# Altium footprint library EPC_2023_Q1a.PcbLib: 40 footprints (part 1 of 3)
Each footprint in its own frame and in the unit in brackets; x right, y up, seen from the top. Pads: shape width x height; smd on the part's side, far side on the other; paste and mask are expansions set on the pad; w line width, h text height; cw(c..) or ccw(c..) is an arc to the next point about the centre after c.
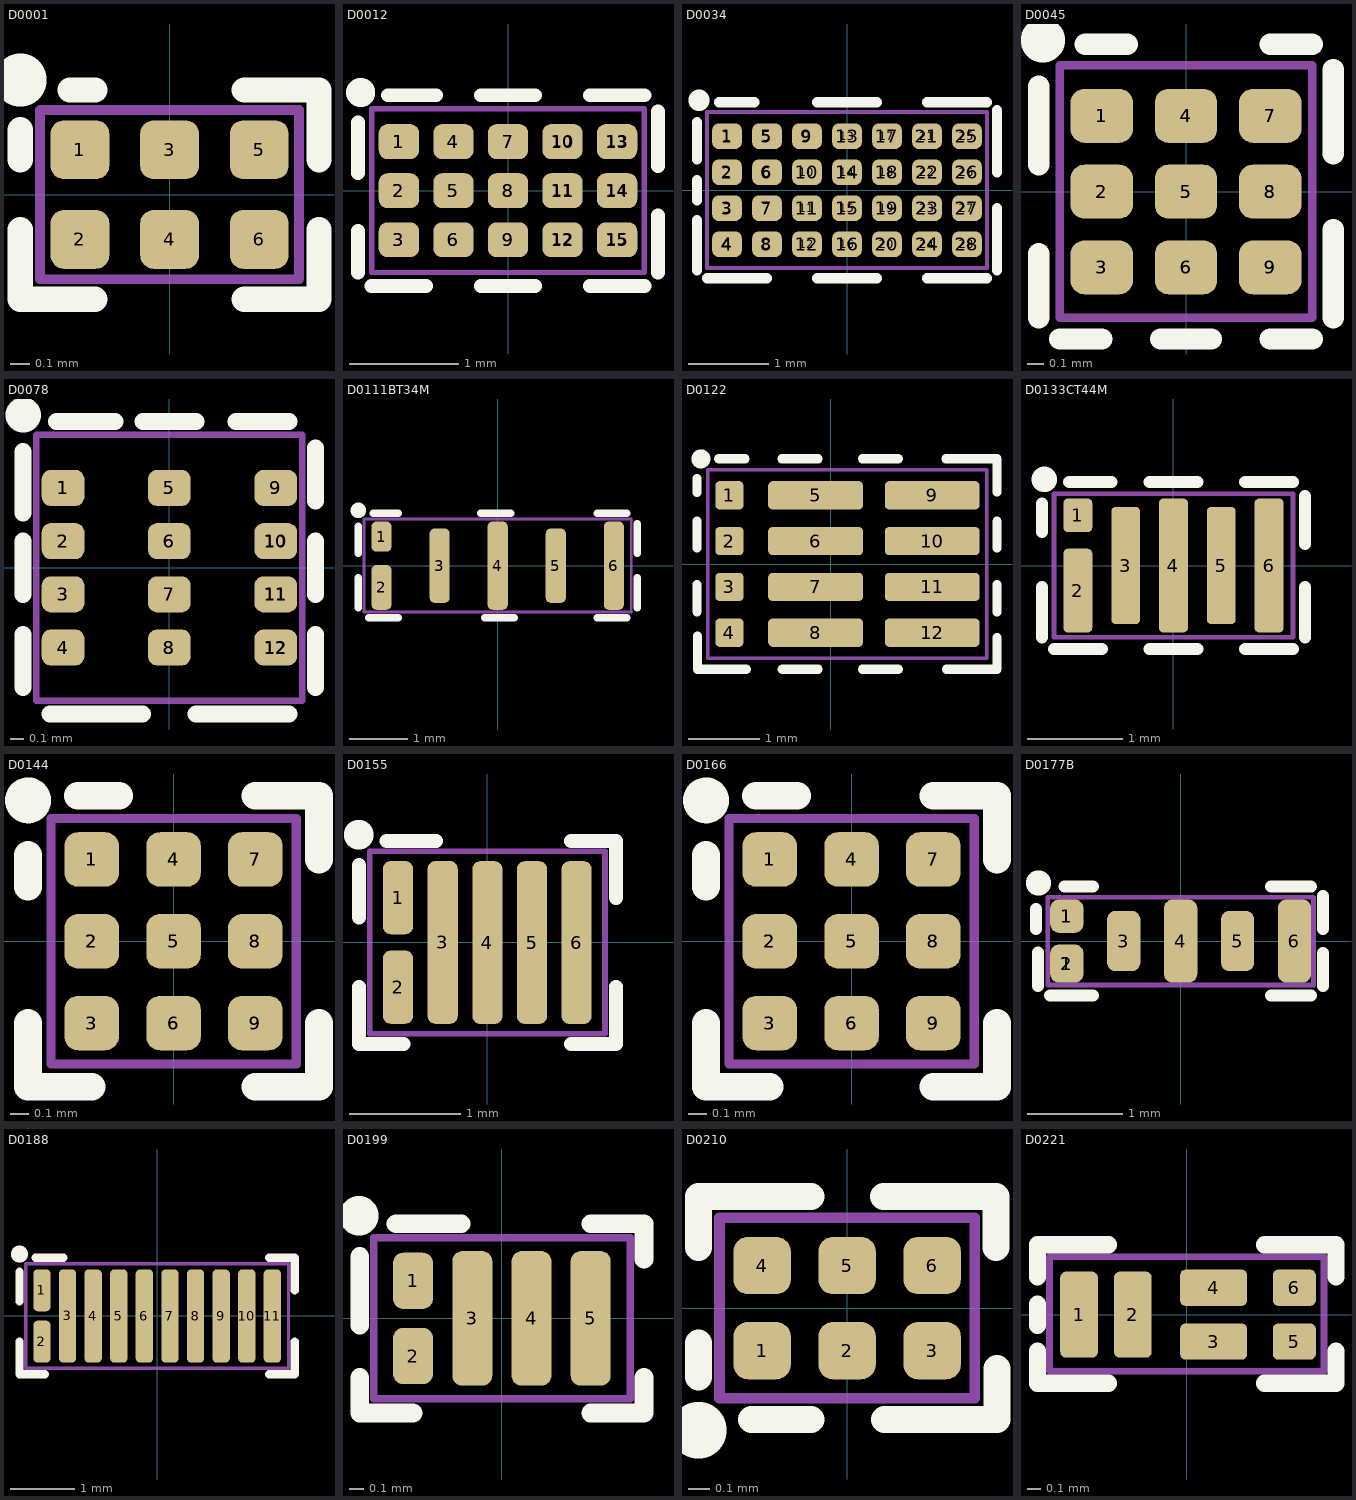
[diagram p0: the footprints below, top view; thin cyan lines are the x and y axes]

## D0001 [mm] "BGA 6 pin, 1.3mm by 0.85mm"
height 0.8
pads (12):
  rrect45% 0.295x0.295 smd paste-0.035 mask-0.135: 1(-0.45,0.225) 2(-0.45,-0.225) 3(0,0.225) 4(0,-0.225) 5(0.45,0.225) 6(0.45,-0.225)
  round 0.225 on Top Solder paste+0 mask+0: ""(-0.45,-0.225) ""(-0.45,0.225) ""(0,-0.225) ""(0,0.225) ""(0.45,-0.225) ""(0.45,0.225)
Top Overlay:
  circle w0.254: c-0.75,0.575 r0.006
  lines w0.127: -0.75,-0.175 -0.75,-0.525 -0.375,-0.525 ; -0.75,0.175 -0.75,0.325 ; -0.5,0.525 -0.375,0.525 ; 0.375,-0.525 0.75,-0.525 0.75,-0.175 ; 0.375,0.525 0.75,0.525 0.75,0.175
Mechanical 13:
  lines w0.05: -0.65,-0.425 0.65,-0.425 0.65,0.425 -0.65,0.425 -0.65,-0.425
3D body: height 0.78, standoff 0.1, extent -0.65,-0.425 0.65,0.425
3D body: height 0.8, standoff 0.15, extent -0.599,0.075 -0.3,0.375
3D body: height 0.15, standoff -0.05, extent -0.547,0.127 -0.353,0.323
3D body: height 0.1, standoff 0.04, extent -0.55,0.125 -0.351,0.325
3D body: height 0.1, standoff 0.04, extent -0.1,0.125 0.099,0.325
3D body: height 0.1, standoff 0.04, extent 0.35,0.125 0.549,0.325
3D body: height 0.1, standoff 0.04, extent -0.55,-0.325 -0.351,-0.125
3D body: height 0.1, standoff 0.04, extent -0.1,-0.325 0.099,-0.125
3D body: height 0.1, standoff 0.04, extent 0.35,-0.325 0.549,-0.125
3D body: height 0.15, standoff -0.05, extent -0.097,0.127 0.097,0.323
3D body: height 0.15, standoff -0.05, extent -0.547,-0.323 -0.353,-0.127
3D body: height 0.15, standoff -0.05, extent -0.097,-0.323 0.097,-0.127
3D body: height 0.15, standoff -0.05, extent 0.353,-0.323 0.547,-0.127
3D body: height 0.15, standoff -0.05, extent 0.353,0.127 0.547,0.323

## D0012 [mm] "Gen 5 100 V"
height 0.8
pads (30):
  rrect50% 0.37x0.32 smd paste-0.035 mask-0.2: 1(-1,0.45) 2(-1,0) 3(-1,-0.45) 4(-0.5,0.45) 5(-0.5,0) 6(-0.5,-0.45) 7(0,0.45) 8(0,0) 9(0,-0.45) 10(0.5,0.45) 11(0.5,0) 12(0.5,-0.45) 13(1,0.45) 14(1,0) 15(1,-0.45)
  round 0.23 on Top Solder paste+0 mask+0: 1(-1,0.45) 2(-1,0) 3(-1,-0.45) 4(-0.5,0.45) 5(-0.5,0) 6(-0.5,-0.45) 7(0,0.45) 8(0,0) 9(0,-0.45) 10(0.5,0.45) 11(0.5,0) 12(0.5,-0.45) 13(1,0.45) 14(1,0) 15(1,-0.45)
Top Overlay:
  circle w0.254: c-1.35,0.9 r0.006
  lines w0.127: -1.375,-0.75 -1.375,-0.37 ; -1.375,0.16 -1.375,0.625 ; -1.25,-0.875 -0.75,-0.875 ; -1.099,0.875 -0.658,0.875 ; -0.25,-0.875 0.25,-0.875 ; -0.25,0.875 0.25,0.875 ; 0.75,-0.875 1.25,-0.875 ; 0.75,0.875 1.25,0.875 ; 1.375,-0.75 1.375,-0.225 ; 1.375,0.225 1.375,0.725
Mechanical 13:
  lines w0.05: -1.25,-0.75 -1.25,0.75 1.25,0.75 1.25,-0.75 -1.25,-0.75
3D body: height 0.26, standoff -0.01, extent -1.129,-0.135 -0.862,0.136
3D body: height 0.2, standoff 0.13, extent -1.137,-0.137 -0.862,0.138
3D body: height 0.89, standoff 0.88, extent -1.151,0.301 -0.852,0.601
3D body: height 0.88, standoff 0.15, extent -1.25,-0.75 1.25,0.75
3D body: height 0.2, standoff 0.13, extent -1.137,0.313 -0.862,0.588
3D body: height 0.26, standoff -0.01, extent -1.129,0.315 -0.862,0.586
3D body: height 0.2, standoff 0.13, extent -1.137,-0.587 -0.862,-0.312
3D body: height 0.26, standoff -0.01, extent -1.129,-0.585 -0.862,-0.314
3D body: height 0.2, standoff 0.13, extent -0.637,0.313 -0.362,0.588
3D body: height 0.26, standoff -0.01, extent -0.629,0.315 -0.362,0.586
3D body: height 0.2, standoff 0.13, extent -0.637,-0.137 -0.362,0.138
3D body: height 0.26, standoff -0.01, extent -0.629,-0.135 -0.362,0.136
3D body: height 0.2, standoff 0.13, extent -0.637,-0.587 -0.362,-0.312
3D body: height 0.26, standoff -0.01, extent -0.629,-0.585 -0.362,-0.314
3D body: height 0.2, standoff 0.13, extent -0.137,0.313 0.138,0.588
3D body: height 0.26, standoff -0.01, extent -0.129,0.315 0.138,0.586
3D body: height 0.2, standoff 0.13, extent -0.137,-0.137 0.138,0.138
3D body: height 0.26, standoff -0.01, extent -0.129,-0.135 0.138,0.136
3D body: height 0.2, standoff 0.13, extent -0.137,-0.587 0.138,-0.312
3D body: height 0.26, standoff -0.01, extent -0.129,-0.585 0.138,-0.314
3D body: height 0.2, standoff 0.13, extent 0.363,-0.587 0.638,-0.312
3D body: height 0.26, standoff -0.01, extent 0.371,-0.585 0.638,-0.314
3D body: height 0.2, standoff 0.13, extent 0.363,-0.137 0.638,0.138
3D body: height 0.26, standoff -0.01, extent 0.371,-0.135 0.638,0.136
3D body: height 0.2, standoff 0.13, extent 0.363,0.313 0.638,0.588
3D body: height 0.26, standoff -0.01, extent 0.371,0.315 0.638,0.586
3D body: height 0.2, standoff 0.13, extent 0.863,0.313 1.138,0.588
3D body: height 0.26, standoff -0.01, extent 0.871,0.315 1.138,0.586
3D body: height 0.2, standoff 0.13, extent 0.863,-0.137 1.138,0.138
3D body: height 0.26, standoff -0.01, extent 0.871,-0.135 1.138,0.136
3D body: height 0.2, standoff 0.13, extent 0.863,-0.587 1.138,-0.312
3D body: height 0.26, standoff -0.01, extent 0.871,-0.585 1.138,-0.314

## D0034 [mm] "Gen 5 100 V"
height 0.8
pads (56):
  rrect50% 0.37x0.32 smd paste-0.035 mask-0.2: 1(-1.5,0.675) 2(-1.5,0.225) 3(-1.5,-0.225) 4(-1.5,-0.675) 5(-1,0.675) 6(-1,0.225) 7(-1,-0.225) 8(-1,-0.675) 9(-0.5,0.675) 10(-0.5,0.225) 11(-0.5,-0.225) 12(-0.5,-0.675) 13(0,0.675) 14(0,0.225) 15(0,-0.225) 16(0,-0.675) 17(0.5,0.675) 18(0.5,0.225) 19(0.5,-0.225) 20(0.5,-0.675) 21(1,0.675) 22(1,0.225) 23(1,-0.225) 24(1,-0.675) 25(1.5,0.675) 26(1.5,0.225) 27(1.5,-0.225) 28(1.5,-0.675)
  round 0.23 on Top Solder paste+0 mask+0: 1(-1.5,0.675) 2(-1.5,0.225) 3(-1.5,-0.225) 4(-1.5,-0.675) 5(-1,0.675) 6(-1,0.225) 7(-1,-0.225) 8(-1,-0.675) 9(-0.5,0.675) 10(-0.5,0.225) 11(-0.5,-0.225) 12(-0.5,-0.675) 13(0,0.675) 14(0,0.225) 15(0,-0.225) 16(0,-0.675) 17(0.5,0.675) 18(0.5,0.225) 19(0.5,-0.225) 20(0.5,-0.675) 21(1,0.675) 22(1,0.225) 23(1,-0.225) 24(1,-0.675) 25(1.5,0.675) 26(1.5,0.225) 27(1.5,-0.225) 28(1.5,-0.675)
Top Overlay:
  circle w0.254: c-1.85,1.125 r0.006
  lines w0.127: -1.875,-1 -1.875,-0.37 ; -1.875,-0.125 -1.875,0.125 ; -1.875,0.385 -1.875,0.85 ; -1.75,-1.1 -1,-1.1 ; -1.599,1.1 -1.158,1.1 ; -0.375,-1.1 0.375,-1.1 ; -0.375,1.1 0.375,1.1 ; 1,-1.1 1.75,-1.1 ; 1,1.1 1.75,1.1 ; 1.875,-1 1.875,-0.225 ; 1.875,0.225 1.875,1
Mechanical 13:
  lines w0.05: -1.75,-0.975 -1.75,0.975 1.75,0.975 1.75,-0.975 -1.75,-0.975
3D body: height 0.88, standoff 0.15, extent -1.753,-0.974 1.751,0.975
3D body: height 0.89, standoff 0.88, extent -1.655,0.53 -1.357,0.829
3D body: height 0.2, standoff 0.13, extent -1.637,0.088 -1.362,0.363
3D body: height 0.26, standoff -0.01, extent -1.629,0.09 -1.362,0.361
3D body: height 0.26, standoff -0.01, extent -1.629,0.54 -1.362,0.811
3D body: height 0.2, standoff 0.13, extent -1.637,0.538 -1.362,0.813
3D body: height 0.26, standoff -0.01, extent -1.629,-0.36 -1.362,-0.089
3D body: height 0.2, standoff 0.13, extent -1.637,-0.362 -1.362,-0.087
3D body: height 0.26, standoff -0.01, extent -1.629,-0.81 -1.362,-0.539
3D body: height 0.2, standoff 0.13, extent -1.637,-0.812 -1.362,-0.537
3D body: height 0.26, standoff -0.01, extent -1.129,0.54 -0.862,0.811
3D body: height 0.2, standoff 0.13, extent -1.137,0.538 -0.862,0.813
3D body: height 0.26, standoff -0.01, extent -1.129,0.09 -0.862,0.361
3D body: height 0.2, standoff 0.13, extent -1.137,0.088 -0.862,0.363
3D body: height 0.26, standoff -0.01, extent -1.129,-0.36 -0.862,-0.089
3D body: height 0.2, standoff 0.13, extent -1.137,-0.362 -0.862,-0.087
3D body: height 0.26, standoff -0.01, extent -1.129,-0.81 -0.862,-0.539
3D body: height 0.2, standoff 0.13, extent -1.137,-0.812 -0.862,-0.537
3D body: height 0.2, standoff 0.13, extent -0.637,-0.812 -0.362,-0.537
3D body: height 0.26, standoff -0.01, extent -0.629,-0.81 -0.362,-0.539
3D body: height 0.2, standoff 0.13, extent -0.637,-0.362 -0.362,-0.087
3D body: height 0.26, standoff -0.01, extent -0.629,-0.36 -0.362,-0.089
3D body: height 0.2, standoff 0.13, extent -0.637,0.088 -0.362,0.363
3D body: height 0.26, standoff -0.01, extent -0.629,0.09 -0.362,0.361
3D body: height 0.2, standoff 0.13, extent -0.637,0.538 -0.362,0.813
3D body: height 0.26, standoff -0.01, extent -0.629,0.54 -0.362,0.811
3D body: height 0.2, standoff 0.13, extent -0.137,-0.812 0.138,-0.537
3D body: height 0.26, standoff -0.01, extent -0.129,-0.81 0.138,-0.539
3D body: height 0.2, standoff 0.13, extent -0.137,-0.362 0.138,-0.087
3D body: height 0.26, standoff -0.01, extent -0.129,-0.36 0.138,-0.089
3D body: height 0.2, standoff 0.13, extent -0.137,0.088 0.138,0.363
3D body: height 0.26, standoff -0.01, extent -0.129,0.09 0.138,0.361
3D body: height 0.2, standoff 0.13, extent -0.137,0.538 0.138,0.813
3D body: height 0.26, standoff -0.01, extent -0.129,0.54 0.138,0.811
3D body: height 0.2, standoff 0.13, extent 0.363,-0.812 0.638,-0.537
3D body: height 0.26, standoff -0.01, extent 0.371,-0.81 0.638,-0.539
3D body: height 0.2, standoff 0.13, extent 0.363,-0.362 0.638,-0.087
3D body: height 0.26, standoff -0.01, extent 0.371,-0.36 0.638,-0.089
3D body: height 0.2, standoff 0.13, extent 0.363,0.088 0.638,0.363
3D body: height 0.26, standoff -0.01, extent 0.371,0.09 0.638,0.361
3D body: height 0.2, standoff 0.13, extent 0.363,0.538 0.638,0.813
3D body: height 0.26, standoff -0.01, extent 0.371,0.54 0.638,0.811
3D body: height 0.2, standoff 0.13, extent 0.863,-0.812 1.138,-0.537
3D body: height 0.26, standoff -0.01, extent 0.871,-0.81 1.138,-0.539
3D body: height 0.2, standoff 0.13, extent 0.863,-0.362 1.138,-0.087
3D body: height 0.26, standoff -0.01, extent 0.871,-0.36 1.138,-0.089
3D body: height 0.2, standoff 0.13, extent 0.863,0.088 1.138,0.363
3D body: height 0.26, standoff -0.01, extent 0.871,0.09 1.138,0.361
3D body: height 0.2, standoff 0.13, extent 0.863,0.538 1.138,0.813
3D body: height 0.26, standoff -0.01, extent 0.871,0.54 1.138,0.811
3D body: height 0.2, standoff 0.13, extent 1.363,-0.812 1.638,-0.537
3D body: height 0.26, standoff -0.01, extent 1.371,-0.81 1.638,-0.539
3D body: height 0.2, standoff 0.13, extent 1.363,-0.362 1.638,-0.087
3D body: height 0.26, standoff -0.01, extent 1.371,-0.36 1.638,-0.089
3D body: height 0.2, standoff 0.13, extent 1.363,0.088 1.638,0.363
3D body: height 0.26, standoff -0.01, extent 1.371,0.09 1.638,0.361
3D body: height 0.2, standoff 0.13, extent 1.363,0.538 1.638,0.813
3D body: height 0.26, standoff -0.01, extent 1.371,0.54 1.638,0.811

## D0045 [mm] "Gen 5 100 V"
height 0.8
pads (18):
  rrect50% 0.37x0.32 smd paste-0.035 mask-0.2: 1(-0.5,0.45) 2(-0.5,0) 3(-0.5,-0.45) 4(0,0.45) 5(0,0) 6(0,-0.45) 7(0.5,0.45) 8(0.5,0) 9(0.5,-0.45)
  round 0.23 on Top Solder paste+0 mask+0: 1(-0.5,0.45) 2(-0.5,0) 3(-0.5,-0.45) 4(0,0.45) 5(0,0) 6(0,-0.45) 7(0.5,0.45) 8(0.5,0) 9(0.5,-0.45)
Top Overlay:
  circle w0.254: c-0.85,0.9 r0.006
  lines w0.127: -0.875,-0.75 -0.875,-0.37 ; -0.875,0.16 -0.875,0.625 ; -0.75,-0.875 -0.5,-0.875 ; -0.599,0.875 -0.348,0.875 ; -0.15,-0.875 0.15,-0.875 ; 0.5,-0.875 0.75,-0.875 ; 0.5,0.875 0.75,0.875 ; 0.875,-0.75 0.875,-0.225 ; 0.875,0.225 0.875,0.725
Mechanical 13:
  lines w0.05: -0.75,-0.75 0.75,-0.75 0.75,0.75 -0.75,0.75 -0.75,-0.75
3D body: height 0.2, standoff 0.13, extent 0.363,0.313 0.638,0.588
3D body: height 0.26, standoff -0.01, extent 0.371,0.315 0.638,0.586
3D body: height 0.2, standoff 0.13, extent -0.137,0.313 0.138,0.588
3D body: height 0.26, standoff -0.01, extent -0.129,0.315 0.138,0.586
3D body: height 0.2, standoff 0.13, extent -0.635,0.312 -0.36,0.588
3D body: height 0.26, standoff -0.01, extent -0.627,0.314 -0.36,0.585
3D body: height 0.2, standoff 0.13, extent -0.637,-0.137 -0.362,0.138
3D body: height 0.26, standoff -0.01, extent -0.629,-0.135 -0.362,0.136
3D body: height 0.2, standoff 0.13, extent -0.136,-0.138 0.139,0.138
3D body: height 0.26, standoff -0.01, extent -0.128,-0.135 0.138,0.135
3D body: height 0.2, standoff 0.13, extent 0.363,-0.137 0.638,0.138
3D body: height 0.26, standoff -0.01, extent 0.371,-0.135 0.638,0.136
3D body: height 0.2, standoff 0.13, extent 0.363,-0.587 0.638,-0.312
3D body: height 0.26, standoff -0.01, extent 0.371,-0.585 0.638,-0.314
3D body: height 0.2, standoff 0.13, extent -0.136,-0.587 0.139,-0.312
3D body: height 0.26, standoff -0.01, extent -0.128,-0.585 0.138,-0.314
3D body: height 0.26, standoff -0.01, extent -0.629,-0.585 -0.362,-0.315
3D body: height 0.2, standoff 0.13, extent -0.637,-0.588 -0.362,-0.312
3D body: height 0.88, standoff 0.15, extent -0.748,-0.75 0.749,0.75
3D body: height 0.89, standoff 0.88, extent -0.647,0.3 -0.348,0.6

## D0078 [mm] "350V Gen5"
height 0.6
pads (24):
  rrect50% 0.321x0.271 smd paste-0.023 mask+0: 1(-0.8,0.6) 2(-0.8,0.2) 3(-0.8,-0.2) 4(-0.8,-0.6) 5(0,0.6) 6(0,0.2) 7(0,-0.2) 8(0,-0.6) 9(0.8,0.6) 10(0.8,0.2) 11(0.8,-0.2) 12(0.8,-0.6)
  round 0.2 on Top Solder paste+0 mask+0: 1(-0.8,0.6) 2(-0.8,0.2) 3(-0.8,-0.2) 4(-0.8,-0.6) 5(0,0.6) 6(0,0.2) 7(0,-0.2) 8(0,-0.6) 9(0.8,0.6) 10(0.8,0.2) 11(0.8,-0.2) 12(0.8,-0.6)
Top Overlay:
  circle w0.254: c-1.1,1.15 r0.006
  lines w0.127: -1.1,-0.9 -1.1,-0.5 ; -1.1,-0.2 -1.1,0.2 ; -1.1,0.41 -1.1,0.875 ; -0.9,-1.1 -0.2,-1.1 ; -0.849,1.1 -0.408,1.1 ; -0.2,1.1 0.2,1.1 ; 0.2,-1.1 0.9,-1.1 ; 0.5,1.1 0.9,1.1 ; 1.1,-0.9 1.1,-0.5 ; 1.1,-0.2 1.1,0.2 ; 1.1,0.5 1.1,0.9
Mechanical 13:
  lines w0.05: -1,-1 -1,1 1,1 1,-1 -1,-1
3D body: height 0.78, standoff 0.13, extent -1,-1.005 1,0.975
3D body: height 0.79, standoff 0.78, extent -0.95,0.45 -0.65,0.749
3D body: height 0.2, standoff 0.13, extent -0.937,-0.738 -0.662,-0.462
3D body: height 0.26, standoff -0.01, extent -0.929,-0.735 -0.662,-0.465
3D body: height 0.26, standoff -0.01, extent -0.129,-0.735 0.138,-0.465
3D body: height 0.2, standoff 0.13, extent -0.137,-0.738 0.138,-0.462
3D body: height 0.26, standoff -0.01, extent 0.671,-0.735 0.938,-0.465
3D body: height 0.2, standoff 0.13, extent 0.663,-0.738 0.938,-0.462
3D body: height 0.2, standoff 0.13, extent 0.663,-0.337 0.938,-0.062
3D body: height 0.26, standoff -0.01, extent 0.671,-0.335 0.938,-0.064
3D body: height 0.2, standoff 0.13, extent -0.137,-0.337 0.138,-0.062
3D body: height 0.26, standoff -0.01, extent -0.129,-0.335 0.138,-0.064
3D body: height 0.26, standoff -0.01, extent -0.929,-0.335 -0.662,-0.064
3D body: height 0.2, standoff 0.13, extent -0.937,-0.337 -0.662,-0.062
3D body: height 0.2, standoff 0.13, extent 0.663,0.063 0.938,0.338
3D body: height 0.26, standoff -0.01, extent 0.671,0.065 0.938,0.336
3D body: height 0.2, standoff 0.13, extent -0.137,0.063 0.138,0.338
3D body: height 0.26, standoff -0.01, extent -0.129,0.065 0.138,0.336
3D body: height 0.26, standoff -0.01, extent -0.929,0.065 -0.662,0.336
3D body: height 0.2, standoff 0.13, extent -0.937,0.063 -0.662,0.338
3D body: height 0.2, standoff 0.13, extent 0.663,0.462 0.938,0.738
3D body: height 0.26, standoff -0.01, extent 0.671,0.465 0.938,0.735
3D body: height 0.2, standoff 0.13, extent -0.137,0.462 0.138,0.738
3D body: height 0.26, standoff -0.01, extent -0.129,0.465 0.138,0.735
3D body: height 0.26, standoff -0.01, extent -0.929,0.465 -0.662,0.735
3D body: height 0.2, standoff 0.13, extent -0.937,0.462 -0.662,0.738

## D0111BT34M [mm] "EPC2215"
height 0.638
pads (18):
  rrect50% 0.346x0.521 smd paste-1 mask-1: 1(-2,0.5)
  rrect50% 0.346x0.771 smd paste-1 mask-1: 2(-2,-0.375)
  rrect50% 0.346x1.281 smd paste-1 mask-1: 3(-1,0) 5(1,0)
  rrect50% 0.346x1.521 smd paste-1 mask-1: 4(0,0) 6(2,0)
  rrect50% 0.275x0.7 on Top Solder paste-1 mask-1: ""(-2,-0.375)
  rrect50% 0.275x0.7 on Top Paste paste-1 mask-1: ""(-2,-0.375)
  rrect50% 0.275x0.45 on Top Solder paste-1 mask-1: ""(-2,0.5)
  rrect50% 0.275x0.45 on Top Paste paste-1 mask-1: ""(-2,0.5)
  rrect50% 0.275x1.21 on Top Solder paste-1 mask-1: ""(-1,0) ""(1,0)
  rrect50% 0.275x1.21 on Top Paste paste-1 mask-1: ""(-1,0) ""(1,0)
  rrect50% 0.275x1.45 on Top Solder paste-1 mask-1: ""(0,0) ""(2,0)
  rrect50% 0.275x1.45 on Top Paste paste-1 mask-1: ""(0,0) ""(2,0)
Top Overlay:
  circle w0.254: c-2.4,0.95 r0.006
  lines w0.127: -2.4,-0.725 -2.4,-0.21 ; -2.4,0.21 -2.4,0.675 ; -2.225,-0.9 -1.71,-0.9 ; -2.149,0.9 -1.708,0.9 ; -0.29,0.9 0.225,0.9 ; -0.225,-0.9 0.29,-0.9 ; 1.71,-0.9 2.225,-0.9 ; 1.71,0.9 2.225,0.9 ; 2.4,-0.725 2.4,-0.21 ; 2.4,0.21 2.4,0.725
Mechanical 13:
  lines w0.05: -2.3,-0.8 -2.3,0.8 2.3,0.8 2.3,-0.8 -2.3,-0.8
3D body: height 0.64, standoff 0.12, extent -2.3,-0.8 2.3,0.8
3D body: height 0.64, standoff 0.64, extent -2.149,0.35 -1.85,0.65
3D body: height 0.28, standoff 0, extent -1.133,0.298 -0.867,0.568
3D body: height 0.28, standoff 0, extent -1.133,-0.568 -0.867,-0.298
3D body: height 0.28, standoff -0.01, extent -1.144,-0.43 -0.856,0.43
3D body: height 0.28, standoff -0.01, extent -0.144,-0.55 0.144,0.55
3D body: height 0.28, standoff 0, extent -0.133,-0.685 0.133,-0.414
3D body: height 0.28, standoff 0, extent -0.133,0.415 0.133,0.686
3D body: height 0.28, standoff -0.01, extent 0.856,-0.43 1.144,0.43
3D body: height 0.28, standoff 0, extent 0.867,-0.568 1.133,-0.298
3D body: height 0.28, standoff 0, extent 0.867,0.298 1.133,0.568
3D body: height 0.28, standoff 0, extent 1.867,0.415 2.133,0.686
3D body: height 0.28, standoff 0, extent 1.867,-0.685 2.133,-0.414
3D body: height 0.28, standoff -0.01, extent 1.856,-0.55 2.144,0.55
3D body: height 0.28, standoff -0.01, extent -2.144,-0.55 -1.856,-0.2
3D body: height 0.28, standoff 0, extent -2.134,-0.685 -1.867,-0.414
3D body: height 0.28, standoff 0, extent -2.134,-0.327 -1.867,-0.056
3D body: height 0.28, standoff 0, extent -2.134,0.415 -1.867,0.686
3D body: height 0.28, standoff 0, extent -2.134,0.307 -1.867,0.577
3D body: height 0.28, standoff 0, extent -2.137,0.45 -1.863,0.55

## D0122 [mm] "HB driver and FETs"
height 0.8
pads (36):
  rrect30% 0.395x0.395 smd paste-0.475 mask-0.135: 1(-1.418,0.96) 2(-1.418,0.32) 3(-1.418,-0.32) 4(-1.418,-0.96)
  rrect30% 1.325x0.395 smd paste-0.475 mask-0.275: 5(-0.213,0.96) 6(-0.213,0.32) 7(-0.213,-0.32) 8(-0.213,-0.96) 9(1.418,0.96) 10(1.418,0.32) 11(1.418,-0.32) 12(1.418,-0.96)
  rrect50% 0.3x0.3 on Top Solder paste+0 mask+0: ""(-1.418,-0.96) ""(-1.418,-0.32) ""(-1.418,0.32) ""(-1.418,0.96)
  rrect50% 0.3x0.3 on Top Paste paste+0 mask+0: ""(-1.418,-0.96) ""(-1.418,-0.32) ""(-1.418,0.32) ""(-1.418,0.96)
  rrect50% 1.23x0.3 on Top Solder: ""(-0.213,-0.96) ""(-0.213,-0.32) ""(-0.213,0.32) ""(-0.213,0.96) ""(1.418,-0.96) ""(1.418,-0.32) ""(1.418,0.32) ""(1.418,0.96)
  rrect50% 1.23x0.3 on Top Paste: ""(-0.213,-0.96) ""(-0.213,-0.32) ""(-0.213,0.32) ""(-0.213,0.96) ""(1.418,-0.96) ""(1.418,-0.32) ""(1.418,0.32) ""(1.418,0.96)
Top Overlay:
  circle w0.254: c-1.817,1.47 r0.006
  lines w0.127: -1.87,0.224 -1.87,0.599 ; -1.87,1 -1.87,1.195 ; -1.87,-0.668 -1.87,-0.284 ; -1.863,-1.008 -1.863,-1.471 -1.181,-1.471 ; -1.566,1.471 -1.2,1.471 ; -0.68,1.471 -0.179,1.471 ; -0.679,-1.471 -0.179,-1.471 ; 0.443,-1.471 0.943,-1.471 ; 0.443,1.471 0.943,1.471 ; 1.608,1.471 2.323,1.471 ; 1.618,-1.471 2.323,-1.471 ; 2.323,-1.451 2.323,-1.026 ; 2.323,-0.668 2.323,-0.284 ; 2.323,0.223 2.323,0.598 ; 2.323,1.008 2.323,1.451
Mechanical 13:
  lines w0.05: -1.717,-1.32 2.183,-1.32 2.183,1.32 -1.717,1.32 -1.717,-1.32
3D body: height 0.1, standoff 0.04, extent -1.537,-0.44 -1.298,-0.2
3D body: height 0.17, standoff -0.05, extent -1.524,-0.428 -1.311,-0.211
3D body: height 0.1, standoff 0.04, extent -1.537,-1.08 -1.298,-0.84
3D body: height 0.17, standoff -0.05, extent -1.524,-1.068 -1.311,-0.851
3D body: height 0.1, standoff 0.04, extent -1.537,0.84 -1.298,1.08
3D body: height 0.17, standoff -0.05, extent -1.524,0.852 -1.311,1.069
3D body: height 0.1, standoff 0.04, extent -1.537,0.2 -1.298,0.44
3D body: height 0.17, standoff -0.05, extent -1.524,0.212 -1.311,0.429
3D body: height 0.1, standoff 0.04, extent 0.84,-1.073 1.995,-0.848
3D body: height 0.04, standoff -0.04, extent 0.842,-1.07 1.992,-0.85
3D body: height 0.1, standoff 0.04, extent 0.84,-0.433 1.995,-0.208
3D body: height 0.04, standoff -0.04, extent 0.842,-0.43 1.992,-0.21
3D body: height 0.04, standoff -0.04, extent 0.842,0.85 1.992,1.07
3D body: height 0.1, standoff 0.04, extent 0.84,0.847 1.995,1.072
3D body: height 0.04, standoff -0.04, extent 0.842,0.21 1.992,0.43
3D body: height 0.1, standoff 0.04, extent 0.84,0.207 1.995,0.432
3D body: height 0.04, standoff -0.04, extent -0.788,-0.43 0.362,-0.21
3D body: height 0.1, standoff 0.04, extent -0.79,-0.433 0.365,-0.208
3D body: height 0.04, standoff -0.04, extent -0.788,-1.07 0.362,-0.85
3D body: height 0.1, standoff 0.04, extent -0.79,-1.073 0.365,-0.848
3D body: height 0.1, standoff 0.04, extent -0.79,0.207 0.365,0.432
3D body: height 0.04, standoff -0.04, extent -0.788,0.21 0.362,0.43
3D body: height 0.1, standoff 0.04, extent -0.79,0.847 0.365,1.072
3D body: height 0.04, standoff -0.04, extent -0.788,0.85 0.362,1.07
3D body: height 0.78, standoff 0.1, extent -1.717,-1.322 2.158,1.32
3D body: height 0.79, standoff 0.78, extent -1.57,0.81 -1.271,1.11

## D0133CT44M [mm] "EPC2055/EPC2204"
height 0.7
pads (18):
  rrect30% 0.301x0.351 smd paste-0.2 mask-0.2: 1(-1,0.525)
  rrect30% 0.301x0.876 smd paste-0.2 mask-0.2: 2(-1,-0.262)
  rrect30% 0.301x1.226 smd paste-0.2 mask-0.2: 3(-0.5,0) 5(0.5,0)
  rrect30% 0.301x1.401 smd paste-0.2 mask-0.2: 4(0,0) 6(1,0)
  rrect50% 0.23x0.805 on Top Solder mask-0.2: ""(-1,-0.262)
  rrect50% 0.23x0.28 on Top Solder mask-0.2: ""(-1,0.525)
  rrect50% 0.23x0.805 on Top Paste mask-0.2: ""(-1,-0.261)
  rrect50% 0.23x0.28 on Top Paste mask-0.2: ""(-1,0.526)
  rrect50% 0.23x1.155 on Top Solder mask-0.2: ""(-0.5,0) ""(0.5,0)
  rrect50% 0.21x1.155 on Top Paste mask-0.2: ""(-0.5,0.001) ""(0.5,0.001)
  rrect50% 0.23x1.33 on Top Solder mask-0.2: ""(0,0) ""(1,0)
  rrect50% 0.21x1.33 on Top Paste mask-0.2: ""(0,0.001) ""(1,0.001)
Top Overlay:
  circle w0.254: c-1.35,0.901 r0.006
  lines w0.127: -1.375,-0.75 -1.375,-0.225 ; -1.375,0.35 -1.375,0.649 ; -1.25,-0.875 -0.75,-0.875 ; -1.09,0.875 -0.65,0.875 ; -0.25,-0.875 0.25,-0.875 ; -0.25,0.875 0.25,0.875 ; 0.75,-0.875 1.25,-0.875 ; 0.75,0.875 1.25,0.875 ; 1.375,-0.75 1.375,-0.225 ; 1.375,0.225 1.375,0.725
Mechanical 13:
  lines w0.05: -1.25,-0.75 1.25,-0.75 1.25,0.75 -1.25,0.75 -1.25,-0.75
3D body "3D_EPClogo2mm.step": height 0.64, standoff 0.64, extent -0.996,-0.449 1,0.45
3D body: height 0.64, standoff 0.12, extent -1.25,-0.749 1.25,0.751
3D body: height 0.22, standoff -0.04, extent -1.118,0.403 -0.875,0.649
3D body: height 0.65, standoff 0.64, extent -1.149,0.376 -0.85,0.675
3D body: height 0.22, standoff -0.04, extent -1.118,-0.108 -0.876,0.139
3D body: height 0.22, standoff -0.04, extent -1.118,-0.662 -0.876,-0.416
3D body: height 0.22, standoff -0.04, extent -1.131,-0.539 -0.87,0.016
3D body: height 0.21, standoff -0.03, extent -0.625,-0.452 -0.376,0.452
3D body: height 0.22, standoff -0.04, extent -0.618,-0.576 -0.376,-0.329
3D body: height 0.22, standoff -0.04, extent -0.618,0.329 -0.376,0.576
3D body: height 0.22, standoff -0.04, extent -0.118,0.417 0.124,0.663
3D body: height 0.22, standoff -0.04, extent -0.118,-0.663 0.124,-0.417
3D body: height 0.21, standoff -0.03, extent -0.125,-0.54 0.124,0.54
3D body: height 0.21, standoff -0.03, extent 0.875,-0.539 1.124,0.541
3D body: height 0.22, standoff -0.04, extent 0.882,-0.663 1.125,-0.416
3D body: height 0.22, standoff -0.04, extent 0.882,0.417 1.125,0.664
3D body: height 0.22, standoff -0.04, extent 0.382,0.33 0.624,0.576
3D body: height 0.22, standoff -0.04, extent 0.382,-0.575 0.624,-0.329
3D body: height 0.21, standoff -0.03, extent 0.375,-0.452 0.624,0.453

## D0144 [mm]
height 1.75
pads (18):
  rrect50% 0.3x0.3 smd paste-0.025 mask-0.148: 1(-0.45,0.45) 2(-0.45,0) 3(-0.45,-0.45) 4(0,0.45) 5(0,0) 6(0,-0.45) 7(0.45,0.45) 8(0.45,0) 9(0.45,-0.45)
  round 0.2 on Top Solder paste+0 mask+0: 1(-0.45,0.45) 2(-0.45,0) 3(-0.45,-0.45) 4(0,0.45) 5(0,0) 6(0,-0.45) 7(0.45,0.45) 8(0.45,0) 9(0.45,-0.45)
Top Overlay:
  circle w0.152: c-0.8,0.775 r0.05
  lines w0.152: -0.8,-0.45 -0.8,-0.8 -0.45,-0.8 ; -0.8,0.3 -0.8,0.475 ; -0.525,0.8 -0.3,0.8 ; 0.45,-0.8 0.8,-0.8 0.8,-0.45 ; 0.45,0.8 0.8,0.8 0.8,0.45
Mechanical 13:
  lines w0.05: -0.675,-0.675 -0.675,0.675 0.675,0.675 0.675,-0.675 -0.675,-0.675
3D body: height 0.26, standoff -0.01, extent 0.321,0.315 0.588,0.586
3D body: height 0.2, standoff 0.13, extent 0.313,0.313 0.588,0.588
3D body: height 0.26, standoff -0.01, extent 0.321,-0.135 0.588,0.136
3D body: height 0.2, standoff 0.13, extent 0.313,-0.137 0.588,0.138
3D body: height 0.26, standoff -0.01, extent 0.321,-0.585 0.588,-0.314
3D body: height 0.2, standoff 0.13, extent 0.313,-0.587 0.588,-0.312
3D body: height 0.26, standoff -0.01, extent -0.129,-0.585 0.138,-0.314
3D body: height 0.2, standoff 0.13, extent -0.137,-0.587 0.138,-0.312
3D body: height 0.26, standoff -0.01, extent -0.129,-0.135 0.138,0.136
3D body: height 0.2, standoff 0.13, extent -0.137,-0.137 0.138,0.138
3D body: height 0.26, standoff -0.01, extent -0.129,0.315 0.138,0.586
3D body: height 0.2, standoff 0.13, extent -0.137,0.313 0.138,0.588
3D body: height 0.26, standoff -0.01, extent -0.579,0.315 -0.312,0.586
3D body: height 0.2, standoff 0.13, extent -0.587,0.313 -0.312,0.588
3D body: height 0.26, standoff -0.01, extent -0.579,-0.135 -0.312,0.136
3D body: height 0.2, standoff 0.13, extent -0.587,-0.137 -0.312,0.138
3D body: height 0.2, standoff 0.13, extent -0.587,-0.587 -0.312,-0.312
3D body: height 0.26, standoff -0.01, extent -0.579,-0.585 -0.312,-0.314
3D body: height 0.82, standoff 0.81, extent -0.599,0.3 -0.3,0.6
3D body: height 0.81, standoff 0.15, extent -0.675,-0.675 0.675,0.675

## D0155 [mm]
height 0.8
pads (12):
  rrect50% 0.27x0.655 smd paste-0.048 mask-0.275: 1(-0.8,0.401) 2(-0.8,-0.401)
  rrect50% 0.27x1.457 smd paste-0.048 mask-0.275: 3(-0.4,0) 4(0,-0.001) 5(0.4,-0.001) 6(0.8,-0.001)
  oval 0.18x0.56 on Top Solder: ""(-0.8,-0.401) ""(-0.8,0.401)
  oval 0.18x1.362 on Top Solder: ""(-0.4,0) ""(0,0) ""(0.4,0) ""(0.8,0)
Top Overlay:
  circle w0.254: c-1.152,0.966 r0.006
  lines w0.127: -1.15,-0.4 -1.15,-0.91 -0.75,-0.91 ; -1.15,0.226 -1.15,0.691 ; -0.901,0.91 -0.461,0.91 ; 0.751,-0.91 1.151,-0.91 1.151,-0.4 ; 0.751,0.91 1.151,0.91 1.151,0.4
Mechanical 13:
  lines w0.05: -1.052,-0.816 1.054,-0.816 1.054,0.816 -1.052,0.816 -1.052,-0.816
3D body: height 0.81, standoff 0.13, extent -1.052,-0.816 1.05,0.816
3D body: height 0.2, standoff 0, extent -0.096,-0.69 0.098,-0.493
3D body: height 0.2, standoff 0, extent -0.097,0.492 0.097,0.69
3D body: height 0.2, standoff 0, extent -0.099,-0.591 0.1,0.591
3D body: height 0.2, standoff 0, extent -0.896,0.111 -0.702,0.309
3D body: height 0.2, standoff 0, extent -0.897,0.491 -0.703,0.688
3D body: height 0.2, standoff 0, extent -0.899,0.21 -0.7,0.59
3D body: height 0.82, standoff 0.81, extent -0.998,0.45 -0.7,0.75
3D body: height 0.2, standoff 0, extent -0.899,-0.592 -0.7,-0.212
3D body: height 0.2, standoff 0, extent -0.897,-0.311 -0.703,-0.114
3D body: height 0.2, standoff 0, extent -0.896,-0.691 -0.702,-0.493
3D body: height 0.2, standoff 0, extent -0.499,-0.59 -0.3,0.592
3D body: height 0.2, standoff 0, extent -0.497,0.493 -0.303,0.691
3D body: height 0.2, standoff 0, extent -0.496,-0.689 -0.302,-0.492
3D body: height 0.2, standoff 0, extent 0.301,-0.591 0.5,0.591
3D body: height 0.2, standoff 0, extent 0.303,0.492 0.497,0.69
3D body: height 0.2, standoff 0, extent 0.304,-0.69 0.498,-0.493
3D body: height 0.2, standoff 0, extent 0.701,-0.59 0.9,0.592
3D body: height 0.2, standoff 0, extent 0.703,0.493 0.897,0.691
3D body: height 0.2, standoff 0, extent 0.704,-0.689 0.898,-0.492

## D0166 [mm]
height 0.8
pads (18):
  rrect50% 0.3x0.3 smd paste-0.038 mask-0.148: 1(-0.45,0.45) 2(-0.45,0) 3(-0.45,-0.45) 4(0,0.45) 5(0,0) 6(0,-0.45) 7(0.45,0.45) 8(0.45,0) 9(0.45,-0.45)
  rrect50% 0.205x0.205 on Top Solder paste+0 mask+0: 1(-0.45,0.45) 2(-0.45,0) 3(-0.45,-0.45) 4(0,0.45) 5(0,0) 6(0,-0.45) 7(0.45,0.45) 8(0.45,0) 9(0.45,-0.45)
Top Overlay:
  circle w0.152: c-0.8,0.775 r0.05
  lines w0.152: -0.8,-0.45 -0.8,-0.8 -0.45,-0.8 ; -0.8,0.3 -0.8,0.475 ; -0.525,0.8 -0.3,0.8 ; 0.45,-0.8 0.8,-0.8 0.8,-0.45 ; 0.45,0.8 0.8,0.8 0.8,0.45
Mechanical 13:
  lines w0.05: -0.675,-0.675 0.675,-0.675 0.675,0.675 -0.675,0.675 -0.675,-0.675
3D body: height 0.81, standoff 0.8, extent -0.599,0.3 -0.3,0.6
3D body: height 0.8, standoff 0.12, extent -0.675,-0.675 0.675,0.675
3D body: height 0.23, standoff -0.05, extent -0.129,-0.135 0.138,0.136
3D body: height 0.16, standoff 0.09, extent -0.137,-0.137 0.138,0.138
3D body: height 0.16, standoff 0.09, extent -0.587,-0.137 -0.312,0.138
3D body: height 0.23, standoff -0.05, extent -0.579,-0.135 -0.312,0.136
3D body: height 0.16, standoff 0.09, extent 0.313,-0.137 0.588,0.138
3D body: height 0.23, standoff -0.05, extent 0.321,-0.135 0.588,0.136
3D body: height 0.16, standoff 0.09, extent -0.587,-0.587 -0.312,-0.312
3D body: height 0.23, standoff -0.05, extent -0.579,-0.585 -0.312,-0.314
3D body: height 0.16, standoff 0.09, extent -0.137,-0.587 0.138,-0.312
3D body: height 0.23, standoff -0.05, extent -0.129,-0.585 0.138,-0.314
3D body: height 0.16, standoff 0.09, extent 0.313,-0.587 0.588,-0.312
3D body: height 0.23, standoff -0.05, extent 0.321,-0.585 0.588,-0.314
3D body: height 0.16, standoff 0.09, extent 0.313,0.313 0.588,0.588
3D body: height 0.23, standoff -0.05, extent 0.321,0.315 0.588,0.586
3D body: height 0.16, standoff 0.09, extent -0.137,0.313 0.138,0.588
3D body: height 0.23, standoff -0.05, extent -0.129,0.315 0.138,0.586
3D body: height 0.16, standoff 0.09, extent -0.587,0.313 -0.312,0.588
3D body: height 0.23, standoff -0.05, extent -0.579,0.315 -0.312,0.586

## D0177B [mm] "Gen 5 200 V medium"
height 0.8
pads (18):
  rrect50% 0.25x0.3 on Top Paste paste+0 mask+0: 1(-1.2,-0.238)
  rrect50% 0.35x0.35 smd paste-1 mask-1: 1(-1.2,0.262)
  rrect50% 0.25x0.25 on Top Paste paste+0 mask+0: 1(-1.2,0.262)
  rrect50% 0.35x0.4 smd paste-1 mask-1: 2(-1.2,-0.238)
  rrect50% 0.35x0.635 smd paste-1 mask-1: 3(-0.6,0) 5(0.6,0)
  rrect50% 0.35x0.875 smd paste-1 mask-1: 4(0,0) 6(1.2,0)
  rrect50% 0.25x0.3 on Top Solder paste-1 mask-1: ""(-1.2,-0.238)
  rrect50% 0.25x0.25 on Top Solder paste-1 mask-1: ""(-1.2,0.262)
  rrect50% 0.25x0.535 on Top Solder paste-1 mask-1: ""(-0.6,0) ""(0.6,0)
  rrect50% 0.25x0.535 on Top Paste paste-1 mask-1: ""(-0.6,0) ""(0.6,0)
  rrect50% 0.25x0.775 on Top Solder paste-1 mask-1: ""(0,0) ""(1.2,0)
  rrect50% 0.25x0.775 on Top Paste paste-1 mask-1: ""(0,0) ""(1.2,0)
Top Overlay:
  circle w0.254: c-1.5,0.613 r0.006
  lines w0.127: -1.525,0.125 -1.525,0.337 ; -1.505,-0.475 -1.505,-0.12 ; -1.375,-0.575 -0.925,-0.575 ; -1.225,0.575 -0.925,0.575 ; 0.95,-0.575 1.375,-0.575 ; 0.95,0.575 1.375,0.575 ; 1.5,-0.475 1.5,-0.125 ; 1.5,0.125 1.5,0.475
Mechanical 13:
  lines w0.05: -1.4,-0.463 -1.4,0.463 1.4,0.463 1.4,-0.463 -1.4,-0.463
3D body: height 0.6, standoff 0.1, extent -1.4,-0.463 1.4,0.458
3D body: height 0.23, standoff -0.03, extent -1.321,0.139 -1.079,0.385
3D body: height 0.22, standoff -0.02, extent 0.472,-0.142 0.722,0.142
3D body: height 0.23, standoff -0.03, extent 0.479,-0.266 0.721,-0.019
3D body: height 0.23, standoff -0.03, extent 0.479,0.019 0.721,0.266
3D body: height 0.22, standoff -0.02, extent 1.072,-0.262 1.322,0.263
3D body: height 0.23, standoff -0.03, extent 1.079,-0.385 1.321,-0.139
3D body: height 0.23, standoff -0.03, extent 1.079,0.139 1.321,0.385
3D body: height 0.23, standoff -0.03, extent -0.121,0.139 0.121,0.385
3D body: height 0.23, standoff -0.03, extent -0.121,-0.386 0.121,-0.139
3D body: height 0.22, standoff -0.02, extent -0.128,-0.262 0.122,0.263
3D body: height 0.23, standoff -0.03, extent -0.721,0.019 -0.479,0.265
3D body: height 0.23, standoff -0.03, extent -0.721,-0.266 -0.479,-0.02
3D body: height 0.22, standoff -0.02, extent -0.727,-0.143 -0.478,0.142
3D body: height 0.23, standoff -0.03, extent -1.321,-0.324 -1.079,-0.077
3D body: height 0.23, standoff -0.03, extent -1.321,-0.399 -1.079,-0.152
3D body: height 0.22, standoff -0.02, extent -1.328,-0.263 -1.079,-0.213
3D body: height 0.61, standoff 0.6, extent -1.349,0.113 -1.05,0.412

## D0188 [mm]
height 0.8
pads (22):
  rrect50% 0.27x0.655 smd paste-0.048 mask-0.275: 1(-1.8,0.401) 2(-1.8,-0.401)
  rrect50% 0.27x1.457 smd paste-0.048 mask-0.275: 3(-1.4,0) 4(-1,-0.001) 5(-0.6,-0.001) 6(-0.2,-0.001) 7(0.2,-0.001) 8(0.6,-0.001) 9(1,-0.001) 10(1.4,-0.001) 11(1.8,-0.001)
  oval 0.18x0.56 on Top Solder: ""(-1.8,-0.4) ""(-1.8,0.4)
  oval 0.18x1.362 on Top Solder: ""(-1.4,0) ""(-1,0) ""(-0.6,0) ""(-0.2,0) ""(0.2,0) ""(0.6,0) ""(1,0) ""(1.4,0) ""(1.8,0)
Top Overlay:
  circle w0.254: c-2.152,0.966 r0.006
  lines w0.127: -2.15,-0.4 -2.15,-0.91 -1.75,-0.91 ; -2.15,0.226 -2.15,0.691 ; -1.901,0.91 -1.461,0.91 ; 1.75,-0.91 2.15,-0.91 2.15,-0.4 ; 1.75,0.91 2.15,0.91 2.15,0.4
Mechanical 13:
  lines w0.05: -2.052,-0.816 -2.052,0.816 2.053,0.816 2.053,-0.816 -2.052,-0.816
3D body: height 0.2, standoff 0, extent 1.704,-0.689 1.898,-0.492
3D body: height 0.2, standoff 0, extent 1.703,0.493 1.897,0.691
3D body: height 0.2, standoff 0, extent 1.701,-0.59 1.9,0.592
3D body: height 0.2, standoff 0, extent 1.304,-0.689 1.498,-0.492
3D body: height 0.2, standoff 0, extent 1.303,0.493 1.497,0.691
3D body: height 0.2, standoff 0, extent 1.301,-0.59 1.5,0.592
3D body: height 0.2, standoff 0, extent 0.904,-0.69 1.098,-0.493
3D body: height 0.2, standoff 0, extent 0.903,0.492 1.097,0.69
3D body: height 0.2, standoff 0, extent 0.901,-0.591 1.1,0.591
3D body: height 0.2, standoff 0, extent 0.504,-0.689 0.698,-0.492
3D body: height 0.2, standoff 0, extent 0.503,0.493 0.697,0.691
3D body: height 0.2, standoff 0, extent 0.501,-0.59 0.7,0.592
3D body: height 0.2, standoff 0, extent 0.104,-0.69 0.298,-0.493
3D body: height 0.2, standoff 0, extent 0.103,0.492 0.297,0.69
3D body: height 0.2, standoff 0, extent 0.101,-0.591 0.3,0.591
3D body: height 0.2, standoff 0, extent -0.296,-0.69 -0.102,-0.493
3D body: height 0.2, standoff 0, extent -0.297,0.492 -0.103,0.69
3D body: height 0.2, standoff 0, extent -0.299,-0.591 -0.1,0.591
3D body: height 0.2, standoff 0, extent -0.696,-0.689 -0.502,-0.492
3D body: height 0.2, standoff 0, extent -0.697,0.493 -0.503,0.691
3D body: height 0.2, standoff 0, extent -0.699,-0.59 -0.5,0.592
3D body: height 0.2, standoff 0, extent -1.096,-0.689 -0.902,-0.492
3D body: height 0.2, standoff 0, extent -1.097,0.493 -0.903,0.691
3D body: height 0.2, standoff 0, extent -1.099,-0.59 -0.9,0.592
3D body: height 0.2, standoff 0, extent -1.896,0.111 -1.702,0.309
3D body: height 0.2, standoff 0, extent -1.897,0.491 -1.703,0.688
3D body: height 0.2, standoff 0, extent -1.899,0.21 -1.7,0.59
3D body: height 0.2, standoff 0, extent -1.899,-0.592 -1.7,-0.212
3D body: height 0.2, standoff 0, extent -1.897,-0.311 -1.703,-0.114
3D body: height 0.2, standoff 0, extent -1.896,-0.691 -1.702,-0.493
3D body: height 0.2, standoff 0, extent -1.499,-0.59 -1.3,0.592
3D body: height 0.2, standoff 0, extent -1.497,0.493 -1.303,0.691
3D body: height 0.2, standoff 0, extent -1.496,-0.689 -1.302,-0.492
3D body: height 0.85, standoff 0.15, extent -1.949,0.251 -1.65,0.551
3D body: height 0.81, standoff 0.1, extent -2.052,-0.816 2.053,0.816

## D0199 [mm]
height 0.8
pads (10):
  rrect50% 0.27x0.38 smd paste-0.048 mask-0.275: 1(-0.6,0.254) 2(-0.6,-0.254)
  rrect50% 0.27x0.909 smd paste-0.048 mask-0.275: 3(-0.2,0) 4(0.2,0) 5(0.6,0)
  oval 0.18x0.31 on Top Solder: ""(-0.6,-0.254) ""(-0.6,0.254)
  oval 0.18x0.817 on Top Solder: ""(-0.2,0) ""(0.2,0) ""(0.6,0)
Top Overlay:
  circle w0.254: c-0.966,0.693 r0.006
  lines w0.127: -0.96,-0.4 -0.96,-0.64 -0.6,-0.64 ; -0.96,-0.047 -0.96,0.418 ; -0.715,0.64 -0.274,0.64 ; 0.6,-0.64 0.96,-0.64 0.96,-0.4 ; 0.6,0.64 0.96,0.64 0.96,0.4
Mechanical 13:
  lines w0.05: -0.866,-0.543 -0.866,0.543 0.866,0.544 0.866,-0.543 -0.866,-0.543
3D body: height 0.2, standoff 0, extent -0.696,0.097 -0.502,0.294
3D body: height 0.2, standoff 0, extent -0.697,0.213 -0.503,0.411
3D body: height 0.2, standoff 0, extent -0.699,0.196 -0.5,0.312
3D body: height 0.82, standoff 0.81, extent -0.824,0.175 -0.525,0.475
3D body: height 0.81, standoff 0.1, extent -0.87,-0.55 0.87,0.55
3D body: height 0.2, standoff 0, extent -0.296,-0.415 -0.102,-0.218
3D body: height 0.2, standoff 0, extent -0.297,0.218 -0.103,0.416
3D body: height 0.2, standoff 0, extent -0.299,-0.317 -0.1,0.317
3D body: height 0.2, standoff 0, extent 0.101,-0.317 0.3,0.317
3D body: height 0.2, standoff 0, extent 0.103,0.218 0.297,0.416
3D body: height 0.2, standoff 0, extent 0.104,-0.415 0.298,-0.218
3D body: height 0.2, standoff 0, extent 0.501,-0.317 0.7,0.317
3D body: height 0.2, standoff 0, extent 0.503,0.218 0.697,0.416
3D body: height 0.2, standoff 0, extent 0.504,-0.415 0.698,-0.218
3D body: height 0.2, standoff 0, extent -0.699,-0.312 -0.5,-0.196
3D body: height 0.2, standoff 0, extent -0.697,-0.295 -0.503,-0.097
3D body: height 0.2, standoff 0, extent -0.696,-0.411 -0.502,-0.214

## D0210 [mm] "eGaN FET"
height 0.8
pads (12):
  rrect50% 0.27x0.27 smd paste-0.01 mask-0.135: 1(-0.4,-0.2) 2(0,-0.2) 3(0.4,-0.2) 4(-0.4,0.2) 5(0,0.2) 6(0.4,0.2)
  round 0.2 on Top Solder paste+0 mask+0: ""(-0.4,-0.2) ""(-0.4,0.2) ""(0,-0.2) ""(0,0.2) ""(0.4,-0.2) ""(0.4,0.2)
Top Overlay:
  circle w0.254: c-0.7,-0.575 r0.006
  lines w0.127: -0.7,-0.325 -0.7,-0.165 ; -0.7,0.285 -0.7,0.525 -0.17,0.525 ; -0.449,-0.525 -0.17,-0.525 ; 0.17,0.525 0.7,0.525 0.7,0.285 ; 0.175,-0.525 0.705,-0.525 0.705,-0.285
Mechanical 13:
  lines w0.05: -0.6,-0.425 -0.6,0.425 0.6,0.425 0.6,-0.425 -0.6,-0.425
3D body: height 0.2, standoff 0.13, extent 0.263,-0.338 0.538,-0.062
3D body: height 0.26, standoff -0.01, extent 0.271,-0.335 0.538,-0.065
3D body: height 0.2, standoff 0.13, extent 0.263,0.062 0.538,0.338
3D body: height 0.26, standoff -0.01, extent 0.271,0.065 0.538,0.335
3D body: height 0.2, standoff 0.13, extent -0.137,-0.338 0.138,-0.062
3D body: height 0.26, standoff -0.01, extent -0.129,-0.335 0.138,-0.065
3D body: height 0.2, standoff 0.13, extent -0.137,0.062 0.138,0.338
3D body: height 0.26, standoff -0.01, extent -0.129,0.065 0.138,0.335
3D body: height 0.2, standoff 0.13, extent -0.537,-0.338 -0.262,-0.062
3D body: height 0.26, standoff -0.01, extent -0.529,-0.335 -0.262,-0.065
3D body: height 0.26, standoff -0.01, extent -0.529,0.065 -0.262,0.336
3D body: height 0.2, standoff 0.13, extent -0.537,0.063 -0.262,0.338
3D body: height 0.82, standoff 0.81, extent -0.549,-0.35 -0.25,-0.05
3D body: height 0.81, standoff 0.15, extent -0.6,-0.425 0.6,0.425

## D0221 [mm] "eGaN FET"
height 0.8
pads (12):
  rrect30% 0.28x0.64 smd paste-0.024 mask-0.147: 1(-0.8,0) 2(-0.4,0)
  rrect30% 0.498x0.27 smd paste-0.024 mask-0.149: 3(0.2,-0.2) 4(0.2,0.2)
  rrect30% 0.32x0.27 smd paste-0.024 mask-0.16: 5(0.8,-0.2) 6(0.8,0.2)
  oval 0.19x0.57 on Top Solder paste+0 mask+0: ""(-0.8,0) ""(-0.4,0)
  oval 0.44x0.19 on Top Solder paste+0 mask+0: ""(0.2,-0.2) ""(0.2,0.2)
  round 0.19 on Top Solder paste+0 mask+0: ""(0.8,-0.2) ""(0.8,0.2)
Top Overlay:
  lines w0.127: -1.11,-0.27 -1.11,-0.51 -0.58,-0.51 ; -1.11,-0.08 -1.11,0.08 ; -1.11,0.28 -1.11,0.52 -0.58,0.52 ; 0.58,-0.51 1.11,-0.51 1.11,-0.27 ; 0.58,0.52 1.11,0.52 1.11,0.28
Mechanical 13:
  lines w0.05: -1.02,-0.42 1.02,-0.42 1.02,0.43 -1.02,0.43 -1.02,-0.42
3D body: height 0.24, standoff -0.04, extent 0.118,0.063 0.282,0.337
3D body: height 0.24, standoff -0.04, extent 0.146,0.067 0.418,0.334
3D body: height 0.24, standoff -0.04, extent -0.018,0.067 0.254,0.334
3D body: height 0.24, standoff -0.04, extent -0.018,-0.333 0.254,-0.066
3D body: height 0.24, standoff -0.04, extent 0.146,-0.333 0.418,-0.066
3D body: height 0.24, standoff -0.04, extent 0.118,-0.337 0.282,-0.063
3D body: height 0.82, standoff 0.81, extent -0.949,-0.15 -0.65,0.15
3D body: height 0.81, standoff 0.13, extent -1.025,-0.425 1.025,0.425
3D body: height 0.26, standoff -0.01, extent 0.671,-0.335 0.938,-0.065
3D body: height 0.2, standoff 0.13, extent 0.663,-0.338 0.938,-0.062
3D body: height 0.26, standoff -0.01, extent 0.671,0.065 0.938,0.335
3D body: height 0.2, standoff 0.13, extent 0.663,0.062 0.938,0.338
3D body: height 0.24, standoff -0.04, extent -0.533,0.011 -0.266,0.283
3D body: height 0.24, standoff -0.04, extent -0.533,-0.283 -0.266,-0.011
3D body: height 0.24, standoff -0.04, extent -0.54,-0.147 -0.265,0.147
3D body: height 0.24, standoff -0.04, extent -0.94,-0.147 -0.665,0.147
3D body: height 0.24, standoff -0.04, extent -0.933,-0.283 -0.666,-0.011
3D body: height 0.24, standoff -0.04, extent -0.933,0.011 -0.666,0.283
3D body: height 0.24, standoff -0.04, extent -0.94,-0.147 -0.665,0.147
3D body: height 0.24, standoff -0.04, extent -0.933,-0.283 -0.666,-0.011
3D body: height 0.24, standoff -0.04, extent -0.933,0.011 -0.666,0.283